# Altium integrated library GRM32ER71H106KA12L.IntLib: 1 symbol
Pins are listed as number, name and electrical type; pins without a type are passive.

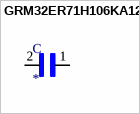
[diagram p0: symbol GRM32ER71H106KA12L]

## GRM32ER71H106KA12L
designator C
10ÂµF Â±10% 50V Ceramic Capacitor X7R 1210 _3225 Metric_; MF: Murata Electronics; MP: GRM32ER71H106KA12L; Value: *; Price: None; Availability: Unavailable; SnapEDA_Link: https://www.snapeda.com/parts/GRM32ER71H106KA12L/Murata%20Electronics%20North%20America/view-part/514305/?ref=snap; Package: 1210 Murata
footprint CAPC3225X270N
pins: 1, 2